# EAGLE library part DIP-SWITCH-SPST-2POS (library podkommander)
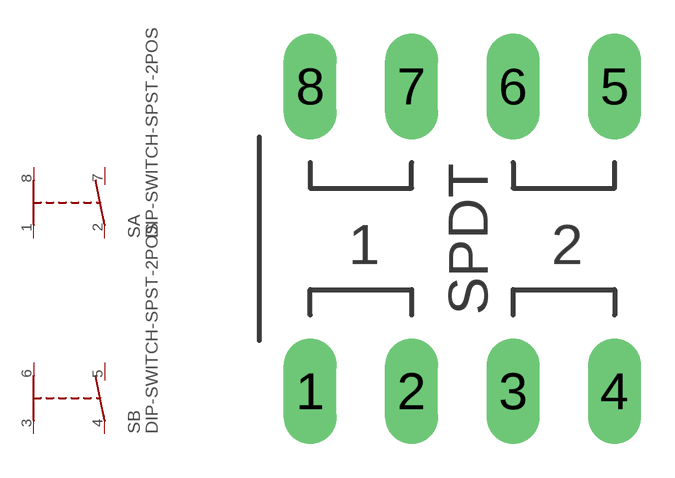
[diagram p3: symbol with the pads of DIP08-SWITCH-SPDT; footprint DIP08-SWITCH-SPDT]

Designator prefix S; gates A=DIP-SWITCH-SPDT B=DIP-SWITCH-SPDT

## DIP-SWITCH-SPST-2POS  [DIP08-SWITCH-SPDT]
1  A:P1  pas
2  A:P2  pas
3  B:P1  pas
4  B:P2  pas
5  B:S  pas
6  B:O  pas
7  A:S  pas
8  A:O  pas

## Footprint DIP08-SWITCH-SPDT (pad centres in mm)
drill 0.813 long: 1 -3.81,-3.81; 2 -1.27,-3.81; 3 1.27,-3.81; 4 3.81,-3.81; 5 3.81,3.81; 6 1.27,3.81; 7 -1.27,3.81; 8 -3.81,3.81